# EAGLE library part PTA1543-2010CIB (library RoboJackets-Resistors)
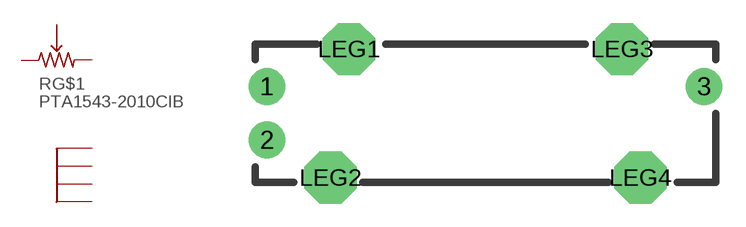
[diagram p1: symbol with the pads of PTA1543-2010CIB; footprint PTA1543-2010CIB]

Designator prefix R; gates G$1=POTENTIOMETER G$2=LEGS-4

## PTA1543-2010CIB  [PTA1543-2010CIB]
1  G$1:PIN1  pas
2  G$1:PIN2  pas
3  G$1:PIN3  pas
LEG1  G$2:1
LEG2  G$2:2
LEG3  G$2:3
LEG4  G$2:4

## Footprint PTA1543-2010CIB (pad centres in mm)
drill 1.2 pad 2.4: 1 -14.25,1.75; 2 -14.25,-1.75; 3 14.25,1.75
drill 1.7 pad 3.4 octagon: LEG1 -8.9,4.2; LEG2 -10.1,-4.2; LEG3 8.9,4.2; LEG4 10.1,-4.2